# Altium schematic symbol library IC-RUNIC.SchLib: 1 symbol
Pins are listed as number, name and electrical type; pins without a type are passive.

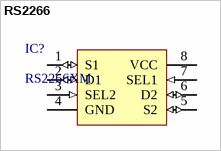
[diagram p0: symbol RS2266]

## RS2266
designator IC?, comment RS2266XM
双路双向SPST模拟开关; Manufacturer_Name: RUNIC(润石); Manufacturer_Part_Number: RS2266XM; LCSC: C783422; ComponentLink1Description: datasheet; ComponentLink1URL: https://item.szlcsc.com/837747.html; Manufacturer_Name_1: *; Manufacturer_Part_Number_1: *
footprint MSOP-8
pins: 1 S1 (io), 2 D1 (io), 3 SEL2 (in), 4 GND (power), 5 S2 (io), 6 D2 (io), 7 SEL1 (in), 8 VCC (power)